# Altium footprint library placa_adquisicion_ecg.PcbLib: 11 footprints
Each footprint in its own frame and in the unit in brackets; x right, y up, seen from the top. Pads: shape width x height; smd on the part's side, far side on the other; paste and mask are expansions set on the pad; w line width, h text height; cw(c..) or ccw(c..) is an arc to the next point about the centre after c.
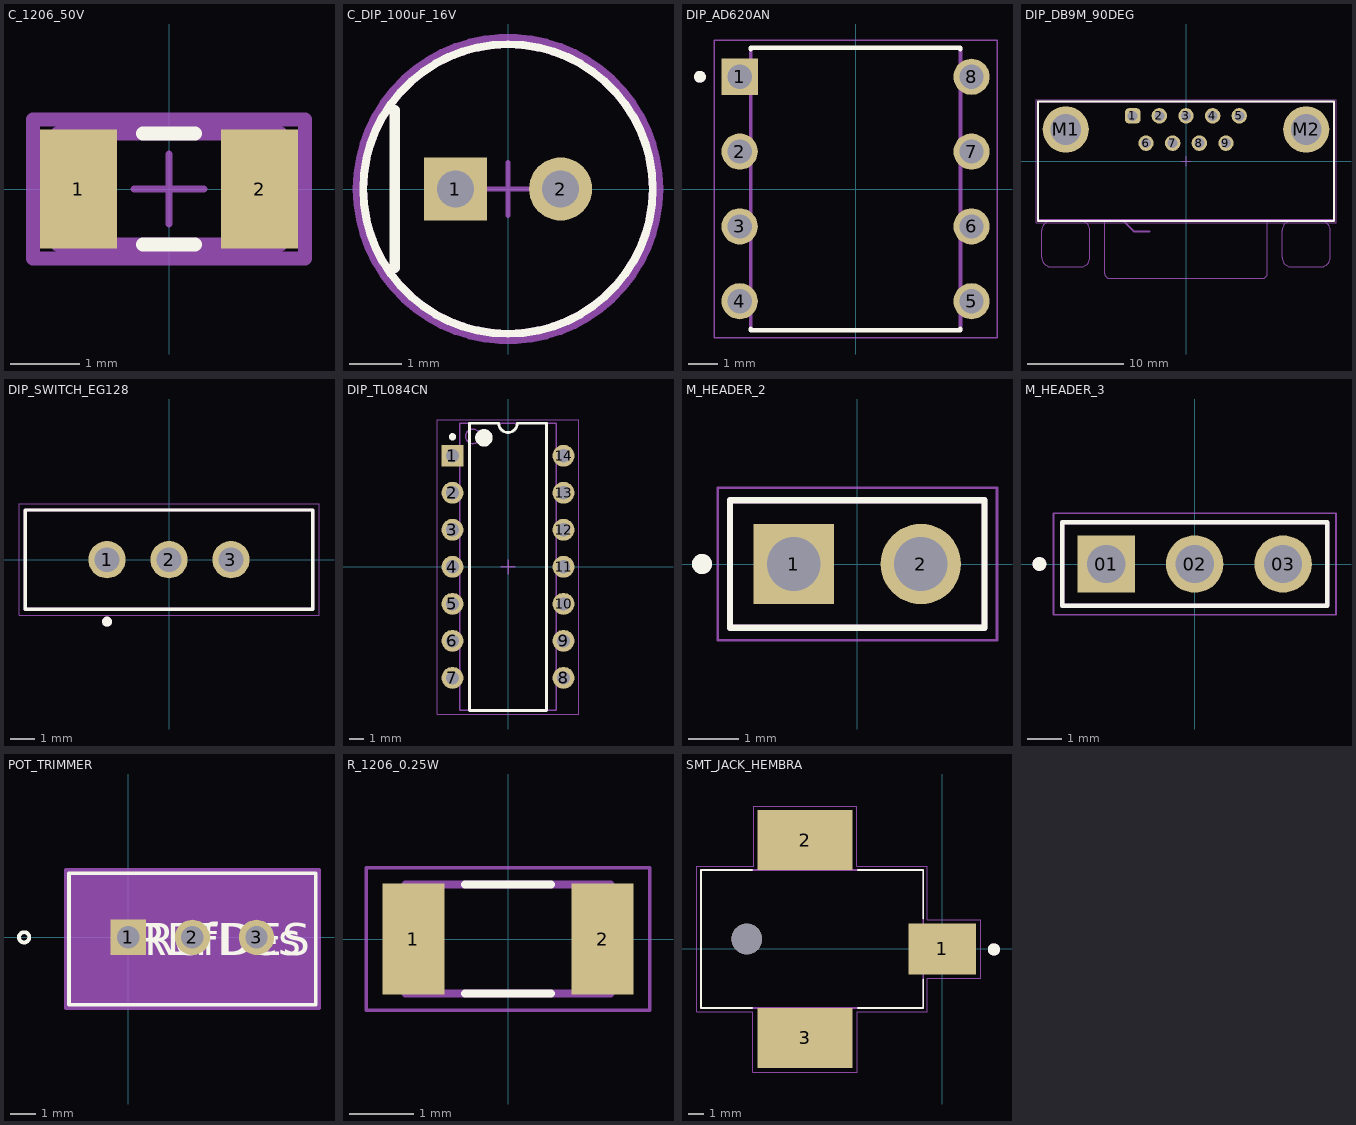
[diagram p0: the footprints below, top view; thin cyan lines are the x and y axes]

## C_1206_50V [mm]
pads (2):
  rect 1.105x1.706 smd paste+0 mask+0: 1(-1.301,0) 2(1.301,0)
Top Overlay:
  lines w0.2: -0.373,-0.8 0.373,-0.8 ; -0.373,0.8 0.373,0.8
Top 3D Body:
  lines w0.2: -1.6,-0.8 -1.6,0.8 1.6,0.8 1.6,-0.8 -1.6,-0.8
Top Courtyard:
  lines w0.2: -1.953,-1 -1.953,1 1.953,1 1.953,-1 -1.953,-1
Top Assembly:
  lines w0.2: -1.953,-1 -1.953,1 1.953,1 1.953,-1 -1.953,-1
Top Component Center:
  lines w0.1: -0.5,0 0.5,0 ; 0,-0.5 0,0.5
3D body "Cap_KEMET_C1206C472K4RACTU_eec.STEP": height 0.25, standoff 0, extent -1.953,-1 1.953,1

## C_DIP_100uF_16V [mm]
pads (2):
  rect 1.2x1.2 hole 0.7 paste-1000 mask+0: 1(-1,0)
  round 1.2 hole 0.7 paste-1000 mask+0: 2(1,0)
Top Overlay:
  circle w0.15: c0,0 r2.75
  lines w0.2: -2.15,-1.5 -2.15,1.5
Top 3D Body:
  circle w0.15: c0,0 r2.75
Top Courtyard:
  lines w0.2: -2.85,0 cw(c0,0) 2.85,0 cw(c0,0) -2.85,0
Top Assembly:
  text ".Designator" at 0,0.188 h1
Top Component Center:
  lines w0.1: -0.5,0 0.5,0 ; 0,-0.5 0,0.5
3D body "Cap_Panasonic_EEUFM1V330B_eec.STEP": height 0.25, standoff 0, extent -2.85,-2.85 2.85,2.85

## DIP_AD620AN [mm]
pads (8):
  rect 1.23x1.23 hole 0.82: 1(-3.935,3.81)
  round 1.23 hole 0.82: 2(-3.935,1.27) 3(-3.935,-1.27) 4(-3.935,-3.81) 5(3.935,-3.81) 6(3.935,-1.27) 7(3.935,1.27) 8(3.935,3.81)
Top Overlay:
  circle w0.2: c-5.285,3.81 r0.1
  lines w0.152: -3.56,-4.74 -3.56,-4.795 3.56,-4.795 3.56,-4.74 ; -3.56,4.74 -3.56,4.795 3.56,4.795 3.56,4.74
Mechanical 13:
  circle w0.2: c-5.285,3.81 r0.1
  lines w0.127: -3.556,-4.318 -3.556,-3.302 ; -3.556,-1.778 -3.556,-0.762 ; -3.556,0.762 -3.556,1.778 ; -3.556,3.302 -3.556,4.318 ; 3.556,-4.318 3.556,-3.302 ; 3.556,-1.778 3.556,-0.762 ; 3.556,0.762 3.556,1.778 ; 3.556,3.302 3.556,4.318 ; -3.56,-4.795 3.56,-4.795 3.56,4.795 -3.56,4.795 -3.56,-4.795
Mechanical 15:
  lines w0.05: -4.8,-5.045 4.8,-5.045 4.8,5.045 -4.8,5.045 -4.8,-5.045
3D body "step_temp.STEP": height 5.33, standoff -3.81, extent -5.461,-4.635 5.461,4.635

## DIP_DB9M_90DEG [mm] "9 pins, right angled, 8.08mm, with hex screw"
height 12.5
pads (11):
  rrect50% 1.6x1.6 hole 1.04: 1(-5.54,4.72)
  round 1.6 hole 1.04: 2(-2.77,4.72) 3(0,4.72) 4(2.77,4.72) 5(5.54,4.72) 6(-4.155,1.88) 7(-1.385,1.88) 8(1.385,1.88) 9(4.155,1.88)
  round 4.8 hole 3.2: M1(-12.5,3.3) M2(12.5,3.3)
Top Overlay:
  lines w0.2: -15.4,-6.2 -15.4,6.2 15.4,6.2 15.4,-6.2 -15.4,-6.2
Top 3D Body:
  lines w0.2: -15.4,-6.12 15.4,-6.12 ; -6.6,-6.12 -5.42,-7.3 -3.8,-7.3
  text "PCB Edge" at -3.4,-7.82 h1.02
Top Courtyard:
  lines w0.05: -0.5,0 0.5,0 ; 0,-0.5 0,0.5 ; -15.6,-6.4 15.6,-6.4 15.6,6.4 -15.6,6.4 -15.6,-6.4
Top Designator:
  text ".Designator" at -7.498,-0.5 h1.5
Top Component Outline:
  lines w0.1: -14,-6.2 ccw(c-14,-7.2) -15,-7.2 -15,-10 ccw(c-14,-10) -14,-11 -11,-11 ccw(c-11,-10) -10,-10 -10,-7.2 ccw(c-11,-7.2) -11,-6.2 ; -8.46,-6.2 -8.46,-11.68 ccw(c-7.96,-11.68) -7.96,-12.18 7.94,-12.18 ; 7.96,-12.18 ccw(c7.96,-11.68) 8.46,-11.68 8.46,-6.2 ; 11,-6.2 ccw(c11,-7.2) 10,-7.2 10,-10 ccw(c11,-10) 11,-11 14,-11 ccw(c14,-10) 15,-10 15,-7.2 ccw(c14,-7.2) 14,-6.2 ; -15.4,-6.2 15.4,-6.2 15.4,6.2 -15.4,6.2 -15.4,-6.2 ; 7.95,-12.18 7.95,-12.18
3D body "618009231221.stp": height 12.57, standoff -3.97, extent -15.4,-12.2 15.4,6.2

## DIP_SWITCH_EG128 [mm]
pads (3):
  round 1.508 hole 1: 1(-2.5,0) 2(0,0) 3(2.5,0)
Top Overlay:
  circle w0.2: c-2.5,-2.5 r0.1
  lines w0.127: -5.8,-2 -5.8,2 5.8,2 5.8,-2 -5.8,-2
Mechanical 13:
  circle w0.2: c-2.5,-2.5 r0.1
  lines w0.127: -5.8,-2 -5.8,2 5.8,2 5.8,-2 -5.8,-2
Mechanical 15:
  lines w0.05: -6.05,-2.25 -6.05,2.25 6.05,2.25 6.05,-2.25 -6.05,-2.25
3D body "step_temp.STEP": height 2, standoff -2, extent -5.8,-7 5.8,5.1

## DIP_TL084CN [mm] "DIP, 14-Leads, Body 19.7x6.6mm, Pitch 2.54mm"
height 5.08
pads (14):
  rect 1.5x1.5 hole 0.9: 1(-3.81,7.62)
  round 1.5 hole 0.9: 2(-3.81,5.08) 3(-3.81,2.54) 4(-3.81,0) 5(-3.81,-2.54) 6(-3.81,-5.08) 7(-3.81,-7.62) 8(3.81,-7.62) 9(3.81,-5.08) 10(3.81,-2.54) 11(3.81,0) 12(3.81,2.54) 13(3.81,5.08) 14(3.81,7.62)
Top Overlay:
  circle w0.25: c-3.81,8.92 r0.125
  circle w0.6: c-1.65,8.85 r0.3
  lines w0.2: -2.65,-9.85 -2.65,9.85 -0.635,9.85 ccw(c0,9.85) 0.635,9.85 2.65,9.85 2.65,-9.85 -2.65,-9.85
Mechanical 13:
  circle w0.1: c-2.4,8.95 r0.5
  lines w0.1: -3.3,-9.85 -3.3,9.85 3.3,9.85 3.3,-9.85 -3.3,-9.85
Mechanical 15:
  lines w0.05: -4.85,-10.1 -4.85,10.1 4.85,10.1 4.85,-10.1 -4.85,-10.1
  lines w0.1: -0.5,0 0.5,0 ; 0,-0.5 0,0.5
3D body: height 2.66, standoff 0, extent -3.945,7.12 -3.675,8.12
3D body: height 2.93, standoff 2.66, extent -3.945,7.12 -3.3,8.12
3D body: height 0, standoff -1.6, extent -3.945,7.26 -3.675,7.98
3D body: height 2.66, standoff 0, extent -3.945,4.58 -3.675,5.58
3D body: height 2.93, standoff 2.66, extent -3.945,4.58 -3.3,5.58
3D body: height 0, standoff -1.6, extent -3.945,4.72 -3.675,5.44
3D body: height 2.66, standoff 0, extent -3.945,2.04 -3.675,3.04
3D body: height 2.93, standoff 2.66, extent -3.945,2.04 -3.3,3.04
3D body: height 0, standoff -1.6, extent -3.945,2.18 -3.675,2.9
3D body: height 2.66, standoff 0, extent -3.945,-0.5 -3.675,0.5
3D body: height 2.93, standoff 2.66, extent -3.945,-0.5 -3.3,0.5
3D body: height 0, standoff -1.6, extent -3.945,-0.36 -3.675,0.36
3D body: height 2.66, standoff 0, extent -3.945,-3.04 -3.675,-2.04
3D body: height 2.93, standoff 2.66, extent -3.945,-3.04 -3.3,-2.04
3D body: height 0, standoff -1.6, extent -3.945,-2.9 -3.675,-2.18
3D body: height 2.66, standoff 0, extent -3.945,-5.58 -3.675,-4.58
3D body: height 2.93, standoff 2.66, extent -3.945,-5.58 -3.3,-4.58
3D body: height 0, standoff -1.6, extent -3.945,-5.44 -3.675,-4.72
3D body: height 2.66, standoff 0, extent -3.945,-8.12 -3.675,-7.12
3D body: height 2.93, standoff 2.66, extent -3.945,-8.12 -3.3,-7.12
3D body: height 0, standoff -1.6, extent -3.945,-7.98 -3.675,-7.26
3D body: height 2.66, standoff 0, extent 3.675,-8.12 3.945,-7.12
3D body: height 2.93, standoff 2.66, extent 3.3,-8.12 3.945,-7.12
3D body: height 0, standoff -1.6, extent 3.675,-7.98 3.945,-7.26
3D body: height 2.66, standoff 0, extent 3.675,-5.58 3.945,-4.58
3D body: height 2.93, standoff 2.66, extent 3.3,-5.58 3.945,-4.58
3D body: height 0, standoff -1.6, extent 3.675,-5.44 3.945,-4.72
3D body: height 2.66, standoff 0, extent 3.675,-3.04 3.945,-2.04
3D body: height 2.93, standoff 2.66, extent 3.3,-3.04 3.945,-2.04
3D body: height 0, standoff -1.6, extent 3.675,-2.9 3.945,-2.18
3D body: height 2.66, standoff 0, extent 3.675,-0.5 3.945,0.5
3D body: height 2.93, standoff 2.66, extent 3.3,-0.5 3.945,0.5
3D body: height 0, standoff -1.6, extent 3.675,-0.36 3.945,0.36
3D body: height 2.66, standoff 0, extent 3.675,2.04 3.945,3.04
3D body: height 2.93, standoff 2.66, extent 3.3,2.04 3.945,3.04
3D body: height 0, standoff -1.6, extent 3.675,2.18 3.945,2.9
3D body: height 2.66, standoff 0, extent 3.675,4.58 3.945,5.58
3D body: height 2.93, standoff 2.66, extent 3.3,4.58 3.945,5.58
3D body: height 0, standoff -1.6, extent 3.675,4.72 3.945,5.44
3D body: height 2.66, standoff 0, extent 3.675,7.12 3.945,8.12
3D body: height 2.93, standoff 2.66, extent 3.3,7.12 3.945,8.12
3D body: height 0, standoff -1.6, extent 3.675,7.26 3.945,7.98
3D body: height 5.08, standoff 0.51, extent -3.3,-9.85 3.3,9.85

## M_HEADER_2 [mm]
height 9.64
pads (2):
  rect 1.605x1.605 / inner round 1.605 / far side rect 1.605x1.605 hole 1.07: 1(-1.27,0)
  round 1.605 hole 1.07: 2(1.27,0)
Top Overlay:
  circle w0.2: c-3.1,0 r0.1
  lines w0.127: -2.54,-1.27 -2.54,1.27 2.54,1.27 2.54,-1.27 -2.54,-1.27
Mechanical 13:
  circle w0.2: c-3.1,0 r0.1
  lines w0.127: -2.54,-1.27 -2.54,1.27 2.54,1.27 2.54,-1.27 -2.54,-1.27
Mechanical 15:
  lines w0.05: -2.79,-1.52 -2.79,1.52 2.79,1.52 2.79,-1.52 -2.79,-1.52
3D body "step_temp.STEP": height 8.74, standoff -3, extent -2.54,-1.27 2.54,1.27

## M_HEADER_3 [mm]
height 8.58
pads (3):
  rect 1.65x1.65 / inner round 1.65 / far side rect 1.65x1.65 hole 1.1: 01(-2.54,0)
  round 1.65 hole 1.1: 02(0,0) 03(2.54,0)
Top Overlay:
  circle w0.2: c-4.46,0 r0.1
  lines w0.127: -3.81,-1.205 -3.81,1.205 3.81,1.205 3.81,-1.205 -3.81,-1.205
Mechanical 13:
  circle w0.2: c-4.46,0 r0.1
  lines w0.127: -3.81,-1.205 -3.81,1.205 3.81,1.205 3.81,-1.205 -3.81,-1.205
Mechanical 15:
  lines w0.05: -4.06,-1.455 -4.06,1.455 4.06,1.455 4.06,-1.455 -4.06,-1.455
3D body "step_temp.STEP": height 8.38, standoff -3.05, extent -3.81,-1.205 3.81,1.205

## POT_TRIMMER [mil]
pads (3):
  rect 55x55 / inner round 60 / far side rect 55x55 hole 35 paste-27.5 mask+0: 1(0,0)
  round 55 / inner round 60 / far side round 55 hole 35 paste-27.5 mask+0: 2(100,0) 3(200,0)
Top Overlay:
  circle w6: c-162.5,0 r8
  lines w6: -92.5,-105.12 292.5,-105.12 292.5,99.88 -92.5,99.88 -92.5,-105.12
  text "RefDes" at 25,-27.62 h50
  text "REFDES" at 12.5,-27.62 h50
Mechanical 13:
  circle w0: c-77.5,-90.12 r8
  lines w1: -87.5,-100.12 287.5,-100.12 287.5,94.88 -87.5,94.88 -87.5,-100.12
  text "RefDes2" at 12.5,-27.62 h50
Mechanical 15:
  region: 297.5,104.88 -97.5,104.88 -97.5,-110.12 297.5,-110.12
  lines w6: -97.5,-110.12 -97.5,104.88 297.5,104.88 297.5,-110.12 -97.5,-110.12
3D body "POT_PV36W_BRN.step": height 455, standoff -200, extent -87.48,-100.12 287.48,94.88

## R_1206_0.25W [mm]
pads (2):
  rect 0.97x1.73 smd: 1(-1.48,0) 2(1.48,0)
Top Overlay:
  lines w0.127: -0.67,-0.85 0.67,-0.85 ; -0.67,0.85 0.67,0.85
Mechanical 13:
  lines w0.127: -1.6,-0.85 -1.6,0.85 1.6,0.85 1.6,-0.85 -1.6,-0.85
Mechanical 15:
  lines w0.05: -2.215,-1.115 -2.215,1.115 2.215,1.115 2.215,-1.115 -2.215,-1.115
3D body "step_temp.STEP": height 0.65, standoff 0, extent -1.55,-0.8 1.55,0.8

## SMT_JACK_HEMBRA [mm]
height 11.17
pads (4):
  rect 4.4x3.3 smd: 1(0,0)
  rect 6.2x3.9 smd: 2(-8.95,7.1) 3(-8.95,-5.8)
  round 2 hole 2 unplated: ""(-12.75,0.65)
Top Overlay:
  circle w0.4: c3.358,-0.03 r0.2
  lines w0.127: -12.4,-3.85 -15.75,-3.85 -15.75,5.15 -12.4,5.15 ; -5.5,-3.85 -1.25,-3.85 -1.25,-2 ; -5.5,5.15 -1.25,5.15 -1.25,2
Mechanical 13:
  circle w0.4: c3.358,-0.03 r0.2
  lines w0.127: -15.75,-3.85 -15.75,5.15 -1.25,5.15 -1.25,-3.85 -15.75,-3.85
Mechanical 15:
  lines w0.05: -16,-4.1 -16,5.4 -12.3,5.4 -12.3,9.3 -5.6,9.3 -5.6,5.4 -1,5.4 -1,1.9 2.5,1.9 2.5,-1.9 -1,-1.9 -1,-4.1 -5.55,-4.1 -5.55,-8.05 -12.35,-8.05 -12.35,-4.1 -16,-4.1
3D body "step_temp.STEP": height 4.5, standoff -8.1, extent -15.55,-7.2 1.55,8